# Altium footprint library DCT_V2.PcbLib: 1 footprints
Each footprint in its own frame and in the unit in brackets; x right, y up, seen from the top. Pads: shape width x height; smd on the part's side, far side on the other; paste and mask are expansions set on the pad; w line width, h text height; cw(c..) or ccw(c..) is an arc to the next point about the centre after c.
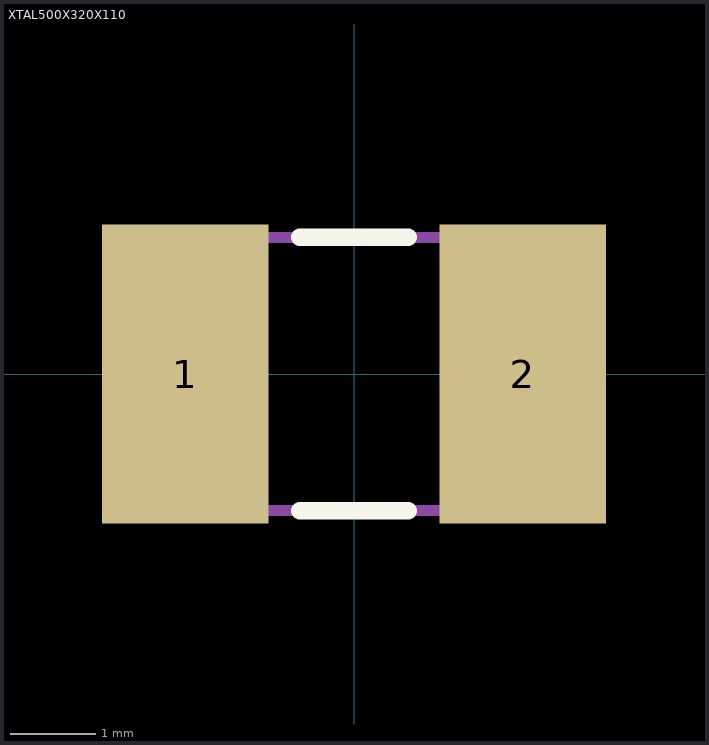
[diagram p0: the footprint, top view; thin cyan lines are the x and y axes]

## XTAL500X320X110 [mm]
height 1.1
pads (2):
  rect 1.95x3.5 smd: 1(-1.975,0) 2(1.975,0)
Top Overlay:
  lines w0.203: -0.635,-1.6 0.635,-1.6 ; -0.635,1.6 0.635,1.6
Mechanical 1:
  text "'.Designator'" at 0,0 h1.52
Mechanical 15:
  lines w0.127: -2.5,-1.6 -2.5,1.6 2.5,1.6 2.5,-1.6 -2.5,-1.6
3D body: height 1.1, standoff 0, extent -2.5,-1.6 2.5,1.6